# Altium schematic symbol library Header 4.Schlib: 1 symbol
Pins are listed as number, name and electrical type; pins without a type are passive.

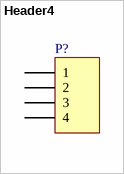
[diagram p0: symbol Header4]

## Header4
designator P?
Header, 4-Pin
pins: 1, 2, 3, 4